# Altium schematic symbol library Amplifier_Current.SchLib: 150 symbols (part 2 of 2)
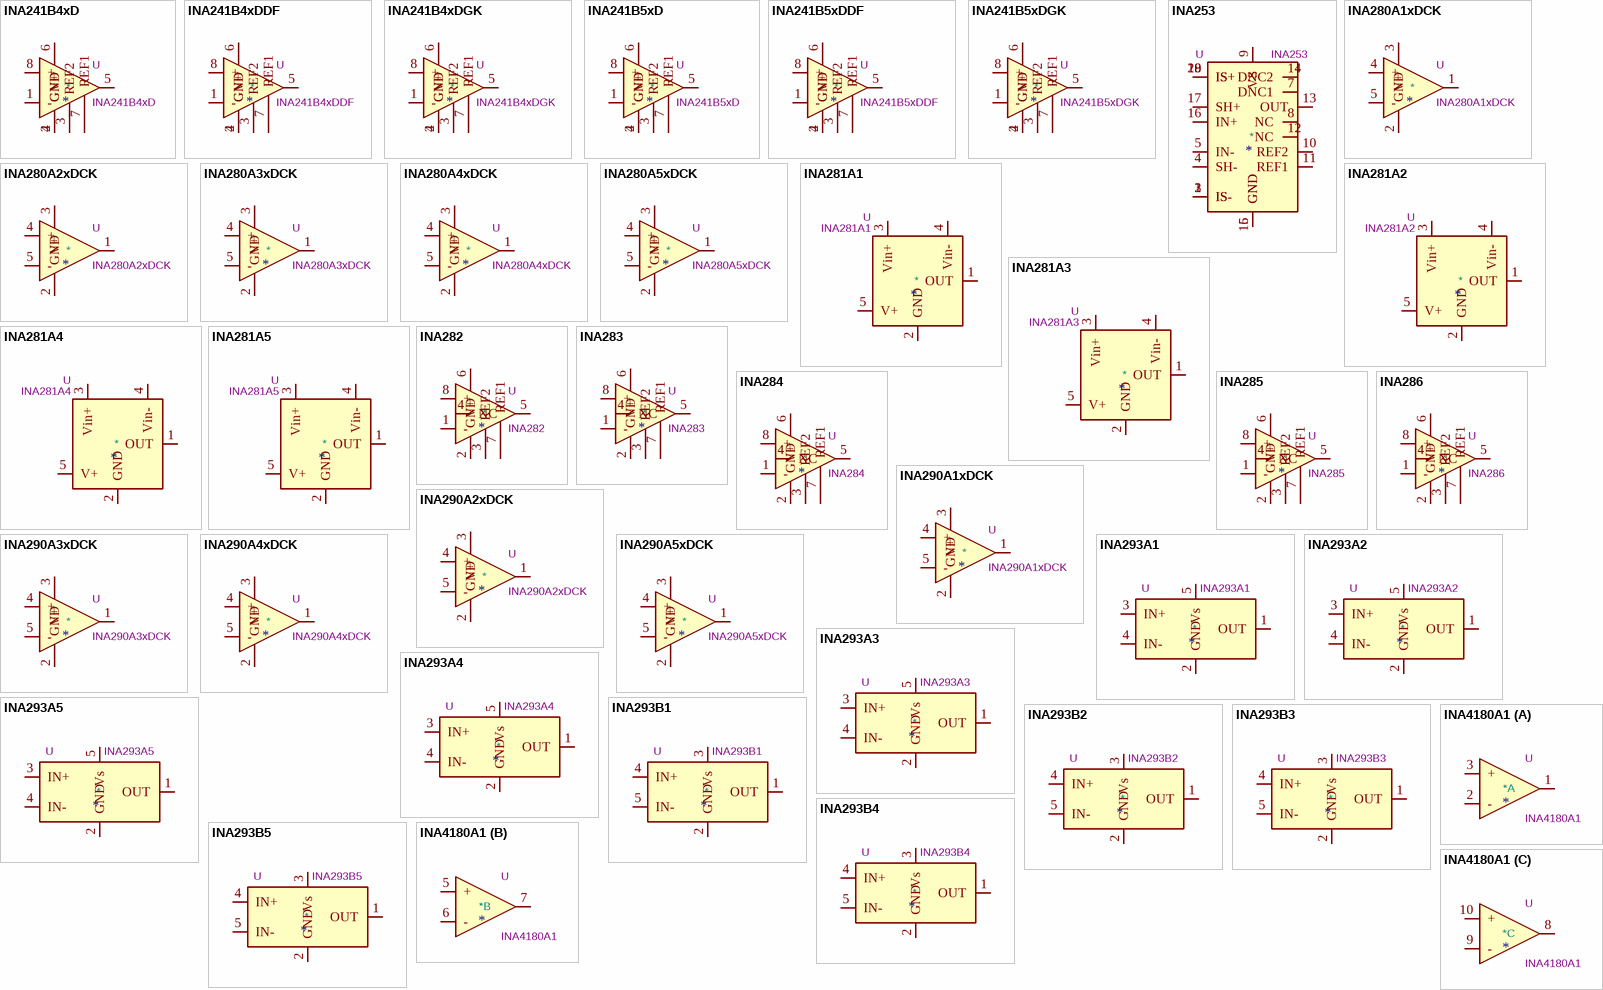
[diagram p5: symbols INA241B4xD to INA4180A1]

## INA280A3xDCK
designator *  value INA280A3xDCK  Reference: U
Current Sense Amplifier, 2.7-V to 120-V Common Mode, 1.1-MHz, Gain 100 V/V, SC-70; ki_keywords: monitor shunt sensor; ki_fp_filters: SOT?353*; Footprint: Package_TO_SOT_SMD:SOT-353_SC-70-5; Datasheet: https://www.ti.com/lit/ds/symlink/ina280.pdf; Description_: Current Sense Amplifier, 2.7-V to 120-V Common Mode, 1.1-MHz, Gain 100 V/V, SC-70
pins: 1, 2 GND, 3 V+, 4 +, 5 -

## INA280A4xDCK
designator *  value INA280A4xDCK  Reference: U
Current Sense Amplifier, 2.7-V to 120-V Common Mode, 1.1-MHz, Gain 200 V/V, SC-70; ki_keywords: monitor shunt sensor; ki_fp_filters: SOT?353*; Footprint: Package_TO_SOT_SMD:SOT-353_SC-70-5; Datasheet: https://www.ti.com/lit/ds/symlink/ina280.pdf; Description_: Current Sense Amplifier, 2.7-V to 120-V Common Mode, 1.1-MHz, Gain 200 V/V, SC-70
pins: 1, 2 GND, 3 V+, 4 +, 5 -

## INA280A5xDCK
designator *  value INA280A5xDCK  Reference: U
Current Sense Amplifier, 2.7-V to 120-V Common Mode, 1.1-MHz, Gain 500 V/V, SC-70; ki_keywords: monitor shunt sensor; ki_fp_filters: SOT?353*; Footprint: Package_TO_SOT_SMD:SOT-353_SC-70-5; Datasheet: https://www.ti.com/lit/ds/symlink/ina280.pdf; Description_: Current Sense Amplifier, 2.7-V to 120-V Common Mode, 1.1-MHz, Gain 500 V/V, SC-70
pins: 1, 2 GND, 3 V+, 4 +, 5 -

## INA281A1
designator *  value INA281A1  Reference: U
-4...+110V High Voltage Current Shunt Monitor, 20V/V gain, 1.3 MHz bandwidth,  2.7..20Vcc, 55uV offset voltage, SOT-23-5; ki_keywords: highside HS current sense amplifier linear buffered texas; ki_fp_filters: SOT?23*; Footprint: Package_TO_SOT_SMD:SOT-23-5; Datasheet: https://www.ti.com/lit/ds/symlink/ina281.pdf; Description_: -4...+110V High Voltage Current Shunt Monitor, 20V/V gain, 1.3 MHz bandwidth,  2.7..20Vcc, 55uV offset voltage, SOT-23-5
pins: 1 OUT, 2 GND, 3 Vin+, 4 Vin-, 5 V+

## INA281A2
designator *  value INA281A2  Reference: U
-4...+110V High Voltage Current Shunt Monitor, 50V/V gain, 1.3 MHz bandwidth,  2.7..20Vcc, 55uV offset voltage, SOT-23-5; ki_keywords: highside HS current sense amplifier linear buffered texas; ki_fp_filters: SOT?23*; Footprint: Package_TO_SOT_SMD:SOT-23-5; Datasheet: https://www.ti.com/lit/ds/symlink/ina281.pdf; Description_: -4...+110V High Voltage Current Shunt Monitor, 50V/V gain, 1.3 MHz bandwidth,  2.7..20Vcc, 55uV offset voltage, SOT-23-5
pins: 1 OUT, 2 GND, 3 Vin+, 4 Vin-, 5 V+

## INA281A3
designator *  value INA281A3  Reference: U
-4...+110V High Voltage Current Shunt Monitor, 100V/V gain, 1.3 MHz bandwidth,  2.7..20Vcc, 55uV offset voltage, SOT-23-5; ki_keywords: highside HS current sense amplifier linear buffered texas; ki_fp_filters: SOT?23*; Footprint: Package_TO_SOT_SMD:SOT-23-5; Datasheet: https://www.ti.com/lit/ds/symlink/ina281.pdf; Description_: -4...+110V High Voltage Current Shunt Monitor, 100V/V gain, 1.3 MHz bandwidth,  2.7..20Vcc, 55uV offset voltage, SOT-23-5
pins: 1 OUT, 2 GND, 3 Vin+, 4 Vin-, 5 V+

## INA281A4
designator *  value INA281A4  Reference: U
-4...+110V High Voltage Current Shunt Monitor, 200V/V gain, 1.3 MHz bandwidth,  2.7..20Vcc, 55uV offset voltage, SOT-23-5; ki_keywords: highside HS current sense amplifier linear buffered texas; ki_fp_filters: SOT?23*; Footprint: Package_TO_SOT_SMD:SOT-23-5; Datasheet: https://www.ti.com/lit/ds/symlink/ina281.pdf; Description_: -4...+110V High Voltage Current Shunt Monitor, 200V/V gain, 1.3 MHz bandwidth,  2.7..20Vcc, 55uV offset voltage, SOT-23-5
pins: 1 OUT, 2 GND, 3 Vin+, 4 Vin-, 5 V+

## INA281A5
designator *  value INA281A5  Reference: U
-4...+110V High Voltage Current Shunt Monitor, 500V/V gain, 1.3 MHz bandwidth,  2.7..20Vcc, 55uV offset voltage, SOT-23-5; ki_keywords: highside HS current sense amplifier linear buffered texas; ki_fp_filters: SOT?23*; Footprint: Package_TO_SOT_SMD:SOT-23-5; Datasheet: https://www.ti.com/lit/ds/symlink/ina281.pdf; Description_: -4...+110V High Voltage Current Shunt Monitor, 500V/V gain, 1.3 MHz bandwidth,  2.7..20Vcc, 55uV offset voltage, SOT-23-5
pins: 1 OUT, 2 GND, 3 Vin+, 4 Vin-, 5 V+

## INA282
designator *  value INA282  Reference: U
High-Accuracy, Wide Common-Mode Range, Bidirectional Current Shunt Monitors, Zero-Drift Series, 50V/V, SOIC-8/VSSOP-8; ki_keywords: current monitor shunt sensor bidirectional; ki_fp_filters: SOIC*3.9x4.9mm*P1.27mm* MSOP*3x3mm*P0.65mm*; Datasheet: http://www.ti.com/lit/ds/symlink/ina282.pdf; Description_: High-Accuracy, Wide Common-Mode Range, Bidirectional Current Shunt Monitors, Zero-Drift Series, 50V/V, SOIC-8/VSSOP-8
pins: 1 -, 2 GND, 3 REF2, 4 NC, 5, 6 V+, 7 REF1, 8 +

## INA283
designator *  value INA283  Reference: U
High-Accuracy, Wide Common-Mode Range, Bidirectional Current Shunt Monitors, Zero-Drift Series, 200V/V, SOIC-8/VSSOP-8; ki_keywords: current monitor shunt sensor bidirectional; ki_fp_filters: SOIC*3.9x4.9mm*P1.27mm* MSOP*3x3mm*P0.65mm*; Datasheet: http://www.ti.com/lit/ds/symlink/ina282.pdf; Description_: High-Accuracy, Wide Common-Mode Range, Bidirectional Current Shunt Monitors, Zero-Drift Series, 200V/V, SOIC-8/VSSOP-8
pins: 1 -, 2 GND, 3 REF2, 4 NC, 5, 6 V+, 7 REF1, 8 +

## INA284
designator *  value INA284  Reference: U
High-Accuracy, Wide Common-Mode Range, Bidirectional Current Shunt Monitors, Zero-Drift Series, 500V/V, SOIC-8/VSSOP-8; ki_keywords: current monitor shunt sensor bidirectional; ki_fp_filters: SOIC*3.9x4.9mm*P1.27mm* MSOP*3x3mm*P0.65mm*; Datasheet: http://www.ti.com/lit/ds/symlink/ina282.pdf; Description_: High-Accuracy, Wide Common-Mode Range, Bidirectional Current Shunt Monitors, Zero-Drift Series, 500V/V, SOIC-8/VSSOP-8
pins: 1 -, 2 GND, 3 REF2, 4 NC, 5, 6 V+, 7 REF1, 8 +

## INA285
designator *  value INA285  Reference: U
High-Accuracy, Wide Common-Mode Range, Bidirectional Current Shunt Monitors, Zero-Drift Series, 1000V/V, SOIC-8/VSSOP-8; ki_keywords: current monitor shunt sensor bidirectional; ki_fp_filters: SOIC*3.9x4.9mm*P1.27mm* MSOP*3x3mm*P0.65mm*; Datasheet: http://www.ti.com/lit/ds/symlink/ina282.pdf; Description_: High-Accuracy, Wide Common-Mode Range, Bidirectional Current Shunt Monitors, Zero-Drift Series, 1000V/V, SOIC-8/VSSOP-8
pins: 1 -, 2 GND, 3 REF2, 4 NC, 5, 6 V+, 7 REF1, 8 +

## INA286
designator *  value INA286  Reference: U
High-Accuracy, Wide Common-Mode Range, Bidirectional Current Shunt Monitors, Zero-Drift Series, 100V/V, SOIC-8/VSSOP-8; ki_keywords: current monitor shunt sensor bidirectional; ki_fp_filters: SOIC*3.9x4.9mm*P1.27mm* MSOP*3x3mm*P0.65mm*; Datasheet: http://www.ti.com/lit/ds/symlink/ina282.pdf; Description_: High-Accuracy, Wide Common-Mode Range, Bidirectional Current Shunt Monitors, Zero-Drift Series, 100V/V, SOIC-8/VSSOP-8
pins: 1 -, 2 GND, 3 REF2, 4 NC, 5, 6 V+, 7 REF1, 8 +

## INA290A1xDCK
designator *  value INA290A1xDCK  Reference: U
Current Sense Amplifier, 2.7-V to 120-V Common Mode, 1.1-MHz, Ultra Precise, Gain 20 V/V, SC-70; ki_keywords: monitor shunt sensor; ki_fp_filters: SOT?353*; Footprint: Package_TO_SOT_SMD:SOT-353_SC-70-5; Datasheet: https://www.ti.com/lit/ds/symlink/ina290.pdf; Description_: Current Sense Amplifier, 2.7-V to 120-V Common Mode, 1.1-MHz, Ultra Precise, Gain 20 V/V, SC-70
pins: 1, 2 GND, 3 V+, 4 +, 5 -

## INA290A2xDCK
designator *  value INA290A2xDCK  Reference: U
Current Sense Amplifier, 2.7-V to 120-V Common Mode, 1.1-MHz, Ultra Precise, Gain 50 V/V, SC-70; ki_keywords: monitor shunt sensor; ki_fp_filters: SOT?353*; Footprint: Package_TO_SOT_SMD:SOT-353_SC-70-5; Datasheet: https://www.ti.com/lit/ds/symlink/ina290.pdf; Description_: Current Sense Amplifier, 2.7-V to 120-V Common Mode, 1.1-MHz, Ultra Precise, Gain 50 V/V, SC-70
pins: 1, 2 GND, 3 V+, 4 +, 5 -

## INA290A3xDCK
designator *  value INA290A3xDCK  Reference: U
Current Sense Amplifier, 2.7-V to 120-V Common Mode, 1.1-MHz, Ultra Precise, Gain 100 V/V, SC-70; ki_keywords: monitor shunt sensor; ki_fp_filters: SOT?353*; Footprint: Package_TO_SOT_SMD:SOT-353_SC-70-5; Datasheet: https://www.ti.com/lit/ds/symlink/ina290.pdf; Description_: Current Sense Amplifier, 2.7-V to 120-V Common Mode, 1.1-MHz, Ultra Precise, Gain 100 V/V, SC-70
pins: 1, 2 GND, 3 V+, 4 +, 5 -

## INA290A4xDCK
designator *  value INA290A4xDCK  Reference: U
Current Sense Amplifier, 2.7-V to 120-V Common Mode, 1.1-MHz, Ultra Precise, Gain 200 V/V, SC-70; ki_keywords: monitor shunt sensor; ki_fp_filters: SOT?353*; Footprint: Package_TO_SOT_SMD:SOT-353_SC-70-5; Datasheet: https://www.ti.com/lit/ds/symlink/ina290.pdf; Description_: Current Sense Amplifier, 2.7-V to 120-V Common Mode, 1.1-MHz, Ultra Precise, Gain 200 V/V, SC-70
pins: 1, 2 GND, 3 V+, 4 +, 5 -

## INA290A5xDCK
designator *  value INA290A5xDCK  Reference: U
Current Sense Amplifier, 2.7-V to 120-V Common Mode, 1.1-MHz, Ultra Precise, Gain 500 V/V, SC-70; ki_keywords: monitor shunt sensor; ki_fp_filters: SOT?353*; Footprint: Package_TO_SOT_SMD:SOT-353_SC-70-5; Datasheet: https://www.ti.com/lit/ds/symlink/ina290.pdf; Description_: Current Sense Amplifier, 2.7-V to 120-V Common Mode, 1.1-MHz, Ultra Precise, Gain 500 V/V, SC-70
pins: 1, 2 GND, 3 V+, 4 +, 5 -

## INA293A1
designator *  value INA293A1  Reference: U
-4-V to 110-V, 1.3-MHz bandwidth, Current Sense Amplifier, 20V/V gain, SOT-23-5; ki_keywords: highside high lowside low HS LS linear buffered texas shunt; ki_fp_filters: SOT?23*; Footprint: Package_TO_SOT_SMD:SOT-23-5; Datasheet: https://www.ti.com/lit/ds/symlink/ina293.pdf; Description_: -4-V to 110-V, 1.3-MHz bandwidth, Current Sense Amplifier, 20V/V gain, SOT-23-5
pins: 1 OUT, 2 GND, 3 IN+, 4 IN-, 5 Vs

## INA293A2
designator *  value INA293A2  Reference: U
-4-V to 110-V, 1.3-MHz bandwidth, Current Sense Amplifier, 50V/V gain, SOT-23-5; ki_keywords: highside high lowside low HS LS linear buffered texas shunt; ki_fp_filters: SOT?23*; Footprint: Package_TO_SOT_SMD:SOT-23-5; Datasheet: https://www.ti.com/lit/ds/symlink/ina293.pdf; Description_: -4-V to 110-V, 1.3-MHz bandwidth, Current Sense Amplifier, 50V/V gain, SOT-23-5
pins: 1 OUT, 2 GND, 3 IN+, 4 IN-, 5 Vs

## INA293A3
designator *  value INA293A3  Reference: U
-4-V to 110-V, 1-MHz bandwidth, Current Sense Amplifier, 100V/V gain, SOT-23-5; ki_keywords: highside high lowside low HS LS linear buffered texas shunt; ki_fp_filters: SOT?23*; Footprint: Package_TO_SOT_SMD:SOT-23-5; Datasheet: https://www.ti.com/lit/ds/symlink/ina293.pdf; Description_: -4-V to 110-V, 1-MHz bandwidth, Current Sense Amplifier, 100V/V gain, SOT-23-5
pins: 1 OUT, 2 GND, 3 IN+, 4 IN-, 5 Vs

## INA293A4
designator *  value INA293A4  Reference: U
-4-V to 110-V, 900-KHz bandwidth, Current Sense Amplifier, 200V/V gain, SOT-23-5; ki_keywords: highside high lowside low HS LS linear buffered texas shunt; ki_fp_filters: SOT?23*; Footprint: Package_TO_SOT_SMD:SOT-23-5; Datasheet: https://www.ti.com/lit/ds/symlink/ina293.pdf; Description_: -4-V to 110-V, 900-KHz bandwidth, Current Sense Amplifier, 200V/V gain, SOT-23-5
pins: 1 OUT, 2 GND, 3 IN+, 4 IN-, 5 Vs

## INA293A5
designator *  value INA293A5  Reference: U
-4-V to 110-V, 900-KHz bandwidth, Current Sense Amplifier, 500V/V gain, SOT-23-5; ki_keywords: highside high lowside low HS LS linear buffered texas shunt; ki_fp_filters: SOT?23*; Footprint: Package_TO_SOT_SMD:SOT-23-5; Datasheet: https://www.ti.com/lit/ds/symlink/ina293.pdf; Description_: -4-V to 110-V, 900-KHz bandwidth, Current Sense Amplifier, 500V/V gain, SOT-23-5
pins: 1 OUT, 2 GND, 3 IN+, 4 IN-, 5 Vs

## INA293B1
designator *  value INA293B1  Reference: U
-4-V to 110-V, 1.3-MHz bandwidth, Current Sense Amplifier, 20V/V gain, SOT-23-5; ki_keywords: highside high lowside low HS LS linear buffered texas shunt; ki_fp_filters: SOT?23*; Footprint: Package_TO_SOT_SMD:SOT-23-5; Datasheet: https://www.ti.com/lit/ds/symlink/ina293.pdf; Description_: -4-V to 110-V, 1.3-MHz bandwidth, Current Sense Amplifier, 20V/V gain, SOT-23-5
pins: 1 OUT, 2 GND, 3 Vs, 4 IN+, 5 IN-

## INA293B2
designator *  value INA293B2  Reference: U
-4-V to 110-V, 1.3-MHz bandwidth, Current Sense Amplifier, 50V/V gain, SOT-23-5; ki_keywords: highside high lowside low HS LS linear buffered texas shunt; ki_fp_filters: SOT?23*; Footprint: Package_TO_SOT_SMD:SOT-23-5; Datasheet: https://www.ti.com/lit/ds/symlink/ina293.pdf; Description_: -4-V to 110-V, 1.3-MHz bandwidth, Current Sense Amplifier, 50V/V gain, SOT-23-5
pins: 1 OUT, 2 GND, 3 Vs, 4 IN+, 5 IN-

## INA293B3
designator *  value INA293B3  Reference: U
-4-V to 110-V, 1-MHz bandwidth, Current Sense Amplifier, 100V/V gain, SOT-23-5; ki_keywords: highside high lowside low HS LS linear buffered texas shunt; ki_fp_filters: SOT?23*; Footprint: Package_TO_SOT_SMD:SOT-23-5; Datasheet: https://www.ti.com/lit/ds/symlink/ina293.pdf; Description_: -4-V to 110-V, 1-MHz bandwidth, Current Sense Amplifier, 100V/V gain, SOT-23-5
pins: 1 OUT, 2 GND, 3 Vs, 4 IN+, 5 IN-

## INA293B4
designator *  value INA293B4  Reference: U
-4-V to 110-V, 900-KHz bandwidth, Current Sense Amplifier, 200V/V gain, SOT-23-5; ki_keywords: highside high lowside low HS LS linear buffered texas shunt; ki_fp_filters: SOT?23*; Footprint: Package_TO_SOT_SMD:SOT-23-5; Datasheet: https://www.ti.com/lit/ds/symlink/ina293.pdf; Description_: -4-V to 110-V, 900-KHz bandwidth, Current Sense Amplifier, 200V/V gain, SOT-23-5
pins: 1 OUT, 2 GND, 3 Vs, 4 IN+, 5 IN-

## INA293B5
designator *  value INA293B5  Reference: U
-4-V to 110-V, 900-KHz bandwidth, Current Sense Amplifier, 500V/V gain, SOT-23-5; ki_keywords: highside high lowside low HS LS linear buffered texas shunt; ki_fp_filters: SOT?23*; Footprint: Package_TO_SOT_SMD:SOT-23-5; Datasheet: https://www.ti.com/lit/ds/symlink/ina293.pdf; Description_: -4-V to 110-V, 900-KHz bandwidth, Current Sense Amplifier, 500V/V gain, SOT-23-5
pins: 1 OUT, 2 GND, 3 Vs, 4 IN+, 5 IN-

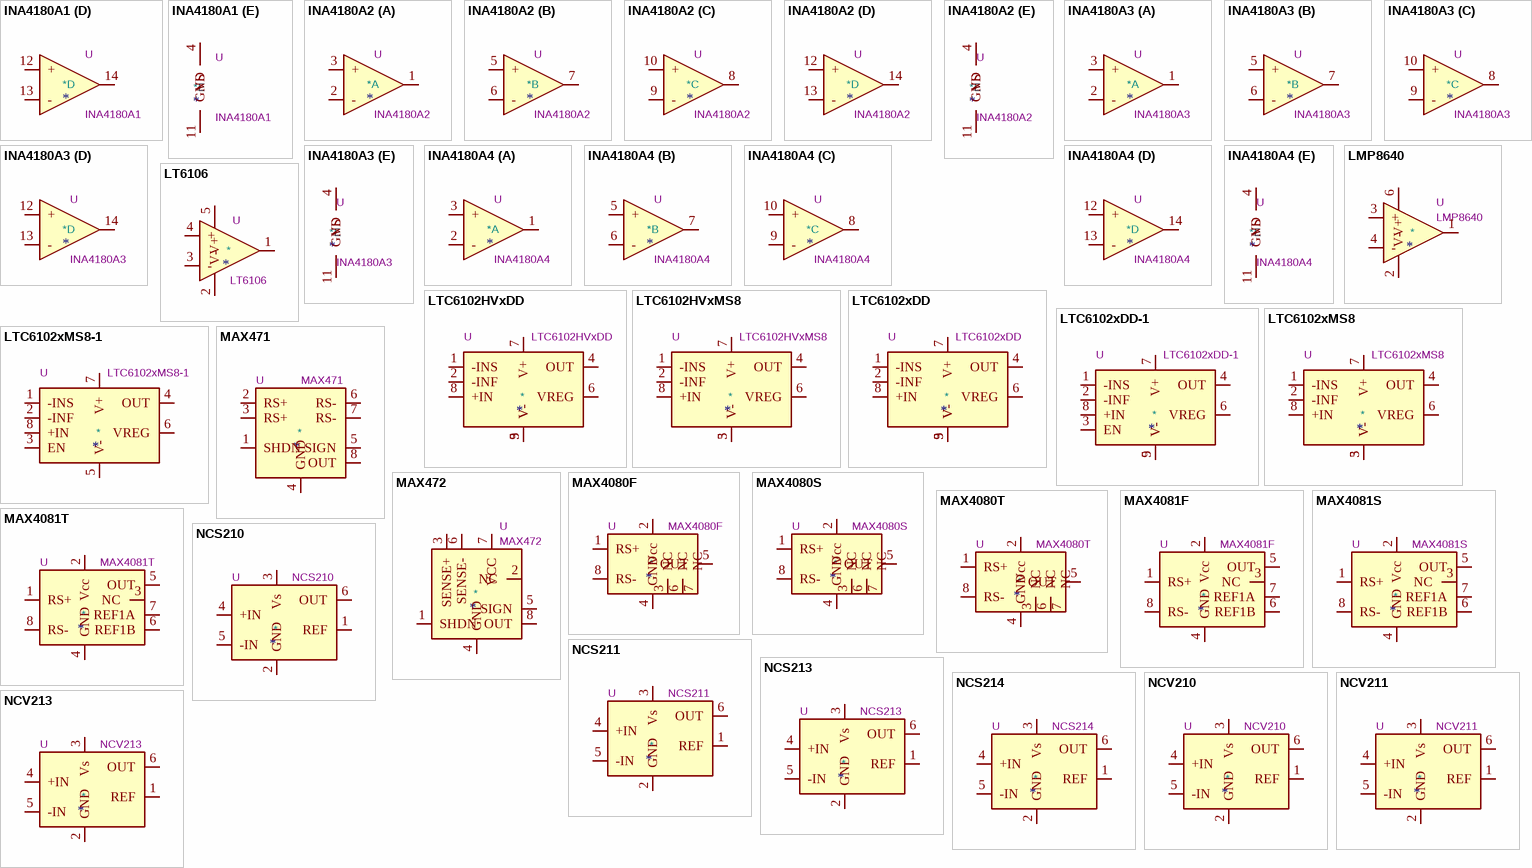
[diagram p3: symbols INA4180A1 to NCV213]

## INA4180A1
designator *  value INA4180A1  Reference: U
Quad current sense amplifier, Rail-to-Rail, 26V, Gain 20 V/V, TSSOP-14; ki_keywords: current monitor shunt sensor texas; ki_fp_filters: TSSOP*4.4x5mm*P0.65mm*; Footprint: Package_SO:TSSOP-14_4.4x5mm_P0.65mm; Datasheet: https://www.ti.com/lit/ds/symlink/ina4180.pdf; Description_: Quad current sense amplifier, Rail-to-Rail, 26V, Gain 20 V/V, TSSOP-14
part A pins: 1, 2 -, 3 +
part B pins: 5 +, 6 -, 7
part C pins: 8, 9 -, 10 +
part D pins: 12 +, 13 -, 14
part E pins: 4 VS, 11 GND

## INA4180A2
designator *  value INA4180A2  Reference: U
Quad current sense amplifier, Rail-to-Rail, 26V, Gain 50 V/V, TSSOP-14; ki_keywords: monitor shunt sensor texas; ki_fp_filters: TSSOP*4.4x5mm*P0.65mm*; Footprint: Package_SO:TSSOP-14_4.4x5mm_P0.65mm; Datasheet: https://www.ti.com/lit/ds/symlink/ina4180.pdf; Description_: Quad current sense amplifier, Rail-to-Rail, 26V, Gain 50 V/V, TSSOP-14
part A pins: 1, 2 -, 3 +
part B pins: 5 +, 6 -, 7
part C pins: 8, 9 -, 10 +
part D pins: 12 +, 13 -, 14
part E pins: 4 VS, 11 GND

## INA4180A3
designator *  value INA4180A3  Reference: U
Quad current sense amplifier, Rail-to-Rail, 26V, Gain 100 V/V, TSSOP-14; ki_keywords: monitor shunt sensor texas; ki_fp_filters: TSSOP*4.4x5mm*P0.65mm*; Footprint: Package_SO:TSSOP-14_4.4x5mm_P0.65mm; Datasheet: https://www.ti.com/lit/ds/symlink/ina4180.pdf; Description_: Quad current sense amplifier, Rail-to-Rail, 26V, Gain 100 V/V, TSSOP-14
part A pins: 1, 2 -, 3 +
part B pins: 5 +, 6 -, 7
part C pins: 8, 9 -, 10 +
part D pins: 12 +, 13 -, 14
part E pins: 4 VS, 11 GND

## INA4180A4
designator *  value INA4180A4  Reference: U
Quad current sense amplifier, Rail-to-Rail, 26V, Gain 200 V/V, TSSOP-14; ki_keywords: monitor shunt sensor texas; ki_fp_filters: TSSOP*4.4x5mm*P0.65mm*; Footprint: Package_SO:TSSOP-14_4.4x5mm_P0.65mm; Datasheet: https://www.ti.com/lit/ds/symlink/ina4180.pdf; Description_: Quad current sense amplifier, Rail-to-Rail, 26V, Gain 200 V/V, TSSOP-14
part A pins: 1, 2 -, 3 +
part B pins: 5 +, 6 -, 7
part C pins: 8, 9 -, 10 +
part D pins: 12 +, 13 -, 14
part E pins: 4 VS, 11 GND

## LMP8640
designator *  value LMP8640  Reference: U
Precision High Voltage Current Sense Amplifiers, 42V/76V, SOT-23-6; ki_keywords: current monitor shunt sensor; ki_fp_filters: SOT?23*; Footprint: Package_TO_SOT_SMD:SOT-23-6; Datasheet: http://www.ti.com/lit/ds/symlink/lmp8640.pdf; Description_: Precision High Voltage Current Sense Amplifiers, 42V/76V, SOT-23-6
pins: 1, 2 V-, 3 +, 4 -, 6 V+

## LT6106
designator *  value LT6106  Reference: U
36V Low Cost, High Side Current Sense, SOT-23-5; ki_fp_filters: SOT?23*; Footprint: Package_TO_SOT_SMD:SOT-23-5; Datasheet: https://www.analog.com/media/en/technical-documentation/data-sheets/6106fb.pdf; Description_: 36V Low Cost, High Side Current Sense, SOT-23-5; ki_keywords: current sense
pins: 1, 2 V-, 3 -, 4 +, 5 V+

## LTC6102HVxDD
designator *  value LTC6102HVxDD  Reference: U
Precision Zero Drift Current Sense Amplifier, 100V, DFN-8; ki_fp_filters: DFN*3x3mm*P0.5mm*; Footprint: Package_DFN_QFN:DFN-8-1EP_3x3mm_P0.5mm_EP1.66x2.38mm; Datasheet: https://www.analog.com/media/en/technical-documentation/data-sheets/6102fe.pdf; Description_: Precision Zero Drift Current Sense Amplifier, 100V, DFN-8; ki_keywords: current sense amplifier
pins: 1 -INS, 2 -INF, 3 V-, 4 OUT, 5 V-, 6 VREG, 7 V+, 8 +IN, 9 V-

## LTC6102HVxMS8
designator *  value LTC6102HVxMS8  Reference: U
Precision Zero Drift Current Sense Amplifier, 100V, MSOP-8; ki_fp_filters: MSOP*3x3mm*P0.65mm*; Footprint: Package_SO:MSOP-8_3x3mm_P0.65mm; Datasheet: https://www.analog.com/media/en/technical-documentation/data-sheets/6102fe.pdf; Description_: Precision Zero Drift Current Sense Amplifier, 100V, MSOP-8; ki_keywords: current sense amplifier
pins: 1 -INS, 2 -INF, 3 V-, 4 OUT, 5 V-, 6 VREG, 7 V+, 8 +IN

## LTC6102xDD
designator *  value LTC6102xDD  Reference: U
Precision Zero Drift Current Sense Amplifier, 60V, DFN-8; ki_fp_filters: DFN*3x3mm*P0.5mm*; Footprint: Package_DFN_QFN:DFN-8-1EP_3x3mm_P0.5mm_EP1.66x2.38mm; Datasheet: https://www.analog.com/media/en/technical-documentation/data-sheets/6102fe.pdf; Description_: Precision Zero Drift Current Sense Amplifier, 60V, DFN-8; ki_keywords: current sense amplifier
pins: 1 -INS, 2 -INF, 3 V-, 4 OUT, 5 V-, 6 VREG, 7 V+, 8 +IN, 9 V-

## LTC6102xDD-1
designator *  value LTC6102xDD-1  Reference: U
Precision Zero Drift Current Sense Amplifier, 60V, DFN-8; ki_fp_filters: DFN*3x3mm*P0.5mm*; Footprint: Package_DFN_QFN:DFN-8-1EP_3x3mm_P0.5mm_EP1.66x2.38mm; Datasheet: https://www.analog.com/media/en/technical-documentation/data-sheets/6102fe.pdf; Description_: Precision Zero Drift Current Sense Amplifier, 60V, DFN-8; ki_keywords: current sense amplifier
pins: 1 -INS, 2 -INF, 3 EN, 4 OUT, 5 V-, 6 VREG, 7 V+, 8 +IN, 9 V-

## LTC6102xMS8
designator *  value LTC6102xMS8  Reference: U
Precision Zero Drift Current Sense Amplifier, 60V, MSOP-8; ki_fp_filters: MSOP*3x3mm*P0.65mm*; Footprint: Package_SO:MSOP-8_3x3mm_P0.65mm; Datasheet: https://www.analog.com/media/en/technical-documentation/data-sheets/6102fe.pdf; Description_: Precision Zero Drift Current Sense Amplifier, 60V, MSOP-8; ki_keywords: current sense amplifier
pins: 1 -INS, 2 -INF, 3 V-, 4 OUT, 5 V-, 6 VREG, 7 V+, 8 +IN

## LTC6102xMS8-1
designator *  value LTC6102xMS8-1  Reference: U
Precision Zero Drift Current Sense Amplifier, 60V, MSOP-8; ki_fp_filters: MSOP*3x3mm*P0.65mm*; Footprint: Package_SO:MSOP-8_3x3mm_P0.65mm; Datasheet: https://www.analog.com/media/en/technical-documentation/data-sheets/6102fe.pdf; Description_: Precision Zero Drift Current Sense Amplifier, 60V, MSOP-8; ki_keywords: current sense amplifier
pins: 1 -INS, 2 -INF, 3 EN, 4 OUT, 5 V-, 6 VREG, 7 V+, 8 +IN

## MAX471
designator *  value MAX471  Reference: U
Precision, High-Side, Current-Sense Amplifiers, DIP-8/SOIC-8; ki_keywords: current sense amplifier; ki_fp_filters: SOIC*3.9x4.9mm*P1.27mm* DIP*W7.62mm*; Datasheet: http://pdfserv.maximintegrated.com/en/ds/MAX471-MAX472.pdf; Description_: Precision, High-Side, Current-Sense Amplifiers, DIP-8/SOIC-8
pins: 1 SHDN, 2 RS+, 3 RS+, 4 GND, 5 SIGN, 6 RS-, 7 RS-, 8 OUT

## MAX472
designator *  value MAX472  Reference: U
Precision, High-Side, Current-Sense Amplifiers, DIP-8/SOIC-8; ki_keywords: current sense amplifier; ki_fp_filters: SOIC*3.9x4.9mm*P1.27mm* DIP*W7.62mm*; Datasheet: http://pdfserv.maximintegrated.com/en/ds/MAX471-MAX472.pdf; Description_: Precision, High-Side, Current-Sense Amplifiers, DIP-8/SOIC-8
pins: 1 SHDN, 2 NC, 3 SENSE+, 4 GND, 5 SIGN, 6 SENSE-, 7 VCC, 8 OUT

## MAX4080F
designator *  value MAX4080F  Reference: U
76V, High-Side, Current-Sense Amplifiers with Voltage Output, Unidirectional, 5V/V Gain, SOIC-8/uMAX-8; ki_keywords: current sense amplifier; ki_fp_filters: SOIC*3.9x4.9mm*P1.27mm* MSOP*3x3mm*P0.65mm*; Datasheet: http://datasheets.maximintegrated.com/en/ds/MAX4080-MAX4081.pdf; Description_: 76V, High-Side, Current-Sense Amplifiers with Voltage Output, Unidirectional, 5V/V Gain, SOIC-8/uMAX-8
pins: 1 RS+, 2 Vcc, 3 NC, 4 GND, 5 OUT, 6 NC, 7 NC, 8 RS-

## MAX4080S
designator *  value MAX4080S  Reference: U
76V, High-Side, Current-Sense Amplifiers with Voltage Output, Undirectional, 60V/V Gain, SOIC-8/uMAX-8; ki_keywords: current sense amplifier; ki_fp_filters: SOIC*3.9x4.9mm*P1.27mm* MSOP*3x3mm*P0.65mm*; Datasheet: http://datasheets.maximintegrated.com/en/ds/MAX4080-MAX4081.pdf; Description_: 76V, High-Side, Current-Sense Amplifiers with Voltage Output, Undirectional, 60V/V Gain, SOIC-8/uMAX-8
pins: 1 RS+, 2 Vcc, 3 NC, 4 GND, 5 OUT, 6 NC, 7 NC, 8 RS-

## MAX4080T
designator *  value MAX4080T  Reference: U
76V, High-Side, Current-Sense Amplifiers with Voltage Output, Unidirectional, 20V/V Gain, SOIC-8/uMAX-8; ki_keywords: current sense amplifier; ki_fp_filters: SOIC*3.9x4.9mm*P1.27mm* MSOP*3x3mm*P0.65mm*; Datasheet: http://datasheets.maximintegrated.com/en/ds/MAX4080-MAX4081.pdf; Description_: 76V, High-Side, Current-Sense Amplifiers with Voltage Output, Unidirectional, 20V/V Gain, SOIC-8/uMAX-8
pins: 1 RS+, 2 Vcc, 3 NC, 4 GND, 5 OUT, 6 NC, 7 NC, 8 RS-

## MAX4081F
designator *  value MAX4081F  Reference: U
76V, High-Side, Current-Sense Amplifiers with Voltage Output, Bidirectional, 5V/V Gain, SOIC-8/uMAX-8; ki_keywords: current sense amplifier; ki_fp_filters: SOIC*3.9x4.9mm*P1.27mm* MSOP*3x3mm*P0.65mm*; Datasheet: http://datasheets.maximintegrated.com/en/ds/MAX4080-MAX4081.pdf; Description_: 76V, High-Side, Current-Sense Amplifiers with Voltage Output, Bidirectional, 5V/V Gain, SOIC-8/uMAX-8
pins: 1 RS+, 2 Vcc, 3 NC, 4 GND, 5 OUT, 6 REF1B, 7 REF1A, 8 RS-

## MAX4081S
designator *  value MAX4081S  Reference: U
76V, High-Side, Current-Sense Amplifiers with Voltage Outpute, Bidirectional, 60V/V Gain, SOIC-8/uMAX-8; ki_keywords: current sense amplifier; ki_fp_filters: SOIC*3.9x4.9mm*P1.27mm* MSOP*3x3mm*P0.65mm*; Datasheet: http://datasheets.maximintegrated.com/en/ds/MAX4080-MAX4081.pdf; Description_: 76V, High-Side, Current-Sense Amplifiers with Voltage Outpute, Bidirectional, 60V/V Gain, SOIC-8/uMAX-8
pins: 1 RS+, 2 Vcc, 3 NC, 4 GND, 5 OUT, 6 REF1B, 7 REF1A, 8 RS-

## MAX4081T
designator *  value MAX4081T  Reference: U
76V, High-Side, Current-Sense Amplifiers with Voltage Output, Bidirectional, 20V/V Gain, SOIC-8/uMAX-8; ki_keywords: current sense amplifier; ki_fp_filters: SOIC*3.9x4.9mm*P1.27mm* MSOP*3x3mm*P0.65mm*; Datasheet: http://datasheets.maximintegrated.com/en/ds/MAX4080-MAX4081.pdf; Description_: 76V, High-Side, Current-Sense Amplifiers with Voltage Output, Bidirectional, 20V/V Gain, SOIC-8/uMAX-8
pins: 1 RS+, 2 Vcc, 3 NC, 4 GND, 5 OUT, 6 REF1B, 7 REF1A, 8 RS-

## NCS210
designator *  value NCS210  Reference: U
Current-Shunt Monitor, Voltage Output, Bi-Directional Zero-Drift, 200V/V Gain, SC-70-6; ki_keywords: Current shunt monitor; ki_fp_filters: *SC?70*; Footprint: Package_TO_SOT_SMD:SOT-363_SC-70-6; Datasheet: https://www.onsemi.com/pub/Collateral/NCS210R-D.PDF; Description_: Current-Shunt Monitor, Voltage Output, Bi-Directional Zero-Drift, 200V/V Gain, SC-70-6
pins: 1 REF, 2 GND, 3 Vs, 4 +IN, 5 -IN, 6 OUT

## NCS211
designator *  value NCS211  Reference: U
Current-Shunt Monitor, Voltage Output, Bi-Directional Zero-Drift, 500V/V Gain, SC-70-6; ki_keywords: Current shunt monitor; ki_fp_filters: *SC?70*; Footprint: Package_TO_SOT_SMD:SOT-363_SC-70-6; Datasheet: https://www.onsemi.com/pub/Collateral/NCS210R-D.PDF; Description_: Current-Shunt Monitor, Voltage Output, Bi-Directional Zero-Drift, 500V/V Gain, SC-70-6
pins: 1 REF, 2 GND, 3 Vs, 4 +IN, 5 -IN, 6 OUT

## NCS213
designator *  value NCS213  Reference: U
Current-Shunt Monitor, Voltage Output, Bi-Directional Zero-Drift, 50V/V Gain, SC-70-6; ki_keywords: Current shunt monitor; ki_fp_filters: *SC?70*; Footprint: Package_TO_SOT_SMD:SOT-363_SC-70-6; Datasheet: https://www.onsemi.com/pub/Collateral/NCS210R-D.PDF; Description_: Current-Shunt Monitor, Voltage Output, Bi-Directional Zero-Drift, 50V/V Gain, SC-70-6
pins: 1 REF, 2 GND, 3 Vs, 4 +IN, 5 -IN, 6 OUT

## NCS214
designator *  value NCS214  Reference: U
Current-Shunt Monitor, Voltage Output, Bi-Directional Zero-Drift, 100V/V Gain, SC-70-6; ki_keywords: Current shunt monitor; ki_fp_filters: *SC?70*; Footprint: Package_TO_SOT_SMD:SOT-363_SC-70-6; Datasheet: https://www.onsemi.com/pub/Collateral/NCS210R-D.PDF; Description_: Current-Shunt Monitor, Voltage Output, Bi-Directional Zero-Drift, 100V/V Gain, SC-70-6
pins: 1 REF, 2 GND, 3 Vs, 4 +IN, 5 -IN, 6 OUT

## NCV210
designator *  value NCV210  Reference: U
Current-Shunt Monitor, Voltage Output, Bi-Directional Zero-Drift, 200V/V Gain, SC-70-6; ki_keywords: Current shunt monitor; ki_fp_filters: *SC?70*; Footprint: Package_TO_SOT_SMD:SOT-363_SC-70-6; Datasheet: https://www.onsemi.com/pub/Collateral/NCS210R-D.PDF; Description_: Current-Shunt Monitor, Voltage Output, Bi-Directional Zero-Drift, 200V/V Gain, SC-70-6
pins: 1 REF, 2 GND, 3 Vs, 4 +IN, 5 -IN, 6 OUT

## NCV211
designator *  value NCV211  Reference: U
Current-Shunt Monitor, Voltage Output, Bi-Directional Zero-Drift, 500V/V Gain, SC-70-6; ki_keywords: Current shunt monitor; ki_fp_filters: *SC?70*; Footprint: Package_TO_SOT_SMD:SOT-363_SC-70-6; Datasheet: https://www.onsemi.com/pub/Collateral/NCS210R-D.PDF; Description_: Current-Shunt Monitor, Voltage Output, Bi-Directional Zero-Drift, 500V/V Gain, SC-70-6
pins: 1 REF, 2 GND, 3 Vs, 4 +IN, 5 -IN, 6 OUT

## NCV213
designator *  value NCV213  Reference: U
Current-Shunt Monitor, Voltage Output, Bi-Directional Zero-Drift, 50V/V Gain, SC-70-6; ki_keywords: Current shunt monitor; ki_fp_filters: *SC?70*; Footprint: Package_TO_SOT_SMD:SOT-363_SC-70-6; Datasheet: https://www.onsemi.com/pub/Collateral/NCS210R-D.PDF; Description_: Current-Shunt Monitor, Voltage Output, Bi-Directional Zero-Drift, 50V/V Gain, SC-70-6
pins: 1 REF, 2 GND, 3 Vs, 4 +IN, 5 -IN, 6 OUT

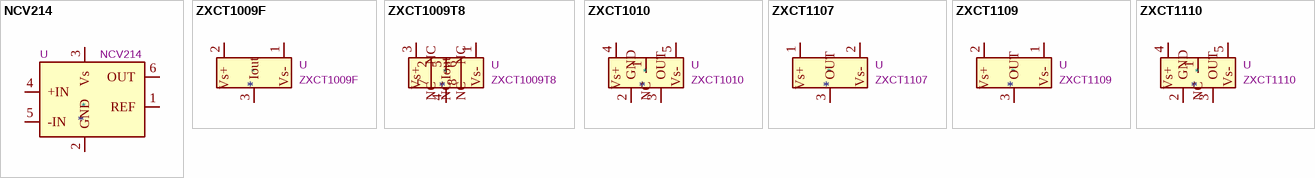
[diagram p4: symbols NCV214 to ZXCT1110]

## NCV214
designator *  value NCV214  Reference: U
Current-Shunt Monitor, Voltage Output, Bi-Directional Zero-Drift, 100V/V Gain, SC-70-6; ki_keywords: Current shunt monitor; ki_fp_filters: *SC?70*; Footprint: Package_TO_SOT_SMD:SOT-363_SC-70-6; Datasheet: https://www.onsemi.com/pub/Collateral/NCS210R-D.PDF; Description_: Current-Shunt Monitor, Voltage Output, Bi-Directional Zero-Drift, 100V/V Gain, SC-70-6
pins: 1 REF, 2 GND, 3 Vs, 4 +IN, 5 -IN, 6 OUT

## ZXCT1009F
designator *  value ZXCT1009F  Reference: U
High-Side Current Monitor, SOT-23; ki_keywords: High side current monitor shunt; ki_fp_filters: SOT?23*; Footprint: Package_TO_SOT_SMD:SOT-23; Datasheet: https://www.diodes.com/assets/Datasheets/ZXCT1009.pdf; Description_: High-Side Current Monitor, SOT-23
pins: 1 Vs-, 2 Vs+, 3 Iout

## ZXCT1009T8
designator *  value ZXCT1009T8  Reference: U
High-Side Current Monitor, SM8; ki_keywords: High side current monitor shunt; ki_fp_filters: Zetex*SM8*; Footprint: Package_SO:Zetex_SM8; Datasheet: https://www.diodes.com/assets/Datasheets/ZXCT1009.pdf; Description_: High-Side Current Monitor, SM8
pins: 1 Vs-, 2 NC, 3 Vs+, 4 Iout, 5 NC, 6 NC, 7 NC, 8 NC

## ZXCT1010
designator *  value ZXCT1010  Reference: U
Enhanced High-Side Current Monitors, SOT-23-5; ki_keywords: High side current monitor shunt; ki_fp_filters: SOT?23*; Footprint: Package_TO_SOT_SMD:SOT-23-5; Datasheet: https://www.diodes.com/assets/Datasheets/ZXCT1010.pdf; Description_: Enhanced High-Side Current Monitors, SOT-23-5
pins: 1 NC, 2 GND, 3 OUT, 4 Vs+, 5 Vs-

## ZXCT1107
designator *  value ZXCT1107  Reference: U
Low Power High-Side Current Monitors, SOT-23; ki_keywords: High side current monitor shunt; ki_fp_filters: SOT?23*; Footprint: Package_TO_SOT_SMD:SOT-23; Datasheet: https://www.diodes.com/assets/Datasheets/ZXCT1107_10.pdf; Description_: Low Power High-Side Current Monitors, SOT-23
pins: 1 Vs+, 2 Vs-, 3 OUT

## ZXCT1109
designator *  value ZXCT1109  Reference: U
Low Power High-Side Current Monitors, SOT-23; ki_keywords: High side current monitor shunt; ki_fp_filters: SOT?23*; Footprint: Package_TO_SOT_SMD:SOT-23; Datasheet: https://www.diodes.com/assets/Datasheets/ZXCT1107_10.pdf; Description_: Low Power High-Side Current Monitors, SOT-23
pins: 1 Vs-, 2 Vs+, 3 OUT

## ZXCT1110
designator *  value ZXCT1110  Reference: U
Low Power High-Side Current Monitors, SOT-23-5; ki_keywords: High side current monitor shunt; ki_fp_filters: SOT?23*; Footprint: Package_TO_SOT_SMD:SOT-23-5; Datasheet: https://www.diodes.com/assets/Datasheets/ZXCT1107_10.pdf; Description_: Low Power High-Side Current Monitors, SOT-23-5
pins: 1 NC, 2 GND, 3 OUT, 4 Vs+, 5 Vs-